# EAGLE library part LDO-TPS73533 (library Pinoccio)
Voltage Regulator LDO 500mA, Low Quiescent Current, Ultra-LowNoise, High PSRR Low-Dropout Linear Regulator
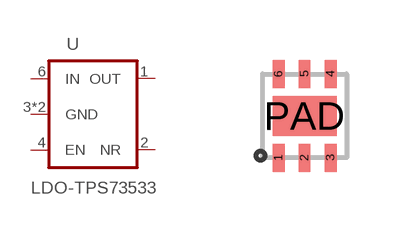
[diagram p11: symbol with the pads of SON-6-DRV; footprint SON-6-DRV]

Designator prefix U

## LDO-TPS73533  [SON-6-DRV]
1  OUT  sup
2  NR  out
3  GND  in
4  EN  in
5  N/C  nc
6  IN  in
PAD  GND  in

## Footprint SON-6-DRV (pad centres in mm)
smd 0.3 x 0.7: 1 0.4,0; 2 1.05,0; 3 1.7,0; 4 1.7,2.1; 5 1.05,2.1; 6 0.4,2.1
smd 1.6 x 1: PAD 1.05,1.05